# EAGLE library part 93AA66CT-I/MC (library Microchip_By_element14_Batch_1)
IC EEPROM
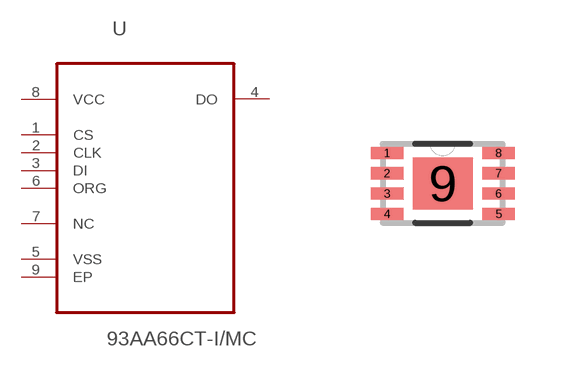
[diagram p205: symbol with the pads of DFN200X300X100-9N; footprint DFN200X300X100-9N]

Designator prefix -

## 93AA66CT-I/MC (MPN: 93AA66CT-I/MC; OC_FARNELL: -; OC_NEWARK: 31K6005; PACKAGE: DFN-8; SUPPLIER: Microchip)  [DFN200X300X100-9N]
1  CS  in
2  CLK  in
3  DI  in
4  DO  out
5  VSS  pwr
6  ORG  in
7  NC  nc
8  VCC  pwr
9  EP  pas

## Footprint DFN200X300X100-9N (pad centres in mm)
smd 0.813 x 0.305: 1 -1.397,0.762; 2 -1.397,0.254; 3 -1.397,-0.254; 4 -1.397,-0.762; 5 1.397,-0.762; 6 1.397,-0.254; 7 1.397,0.254; 8 1.397,0.762
smd 1.499 x 1.295: 9 0,0